# Altium footprint library Mestrado_Roger.PcbLib: 6 footprints
Each footprint in its own frame and in the unit in brackets; x right, y up, seen from the top. Pads: shape width x height; smd on the part's side, far side on the other; paste and mask are expansions set on the pad; w line width, h text height; cw(c..) or ccw(c..) is an arc to the next point about the centre after c.
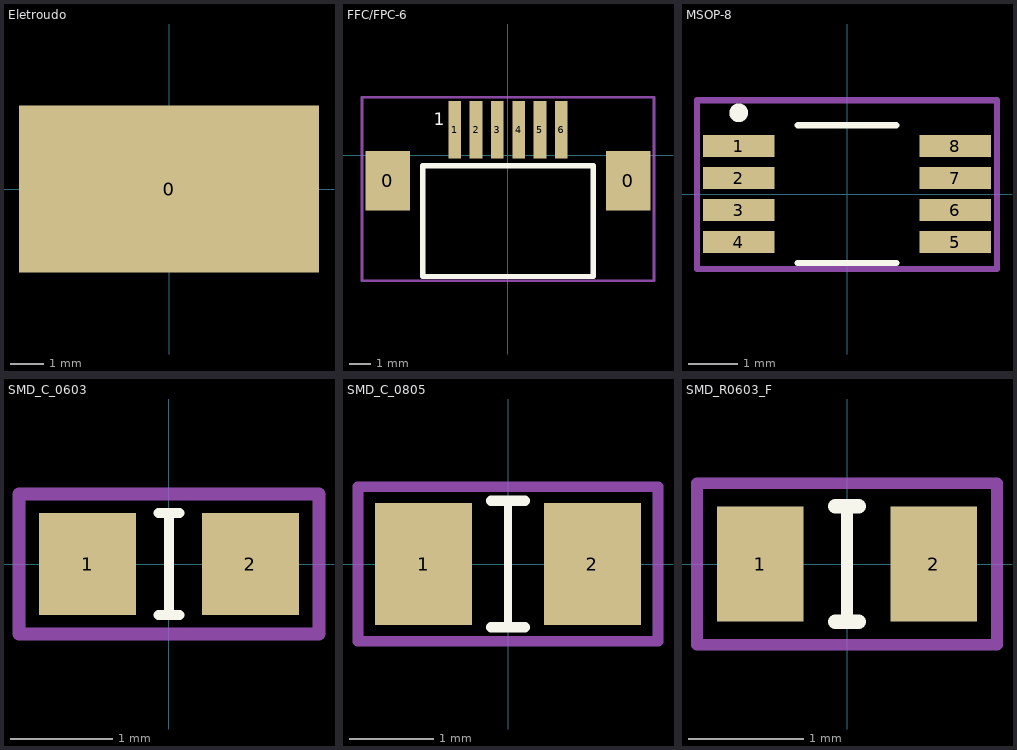
[diagram p0: the footprints below, top view; thin cyan lines are the x and y axes]

## Eletroudo [mm]
pads (1):
  rect 9x5 smd mask+0.127: 0(0,0)

## FFC/FPC-6 [mm]
pads (8):
  rect 2.1x2.8 smd: 0(-5.65,-1.2) 0(5.65,-1.2)
  rect 0.6x2.7 smd: 1(-2.5,1.2) 2(-1.5,1.2) 3(-0.5,1.2) 4(0.5,1.2) 5(1.5,1.2) 6(2.5,1.2)
Top Overlay:
  lines w0.254: -4,-5.7 -4,-0.5 4,-0.5 4,-5.7 -4,-5.7
  text "1" at -3.5,1.2 h1
Mechanical 15:
  lines w0.127: -6.858,-5.893 -6.858,2.718 6.858,2.718 6.858,-5.893 -6.858,-5.893
3D body "522070660.stp": height 2.75, standoff 0.05, extent -6.15,-5.8 6.15,1.8

## MSOP-8 [mm]
pads (8):
  rect 1.45x0.45 smd mask+0.089: 1(-2.2,0.975) 2(-2.2,0.325) 3(-2.2,-0.325) 4(-2.2,-0.975) 5(2.2,-0.975) 6(2.2,-0.325) 7(2.2,0.325) 8(2.2,0.975)
Top Overlay:
  circle w0.254: c-2.2,1.651 r0.064
  lines w0.127: -1,-1.4 1,-1.4 ; -1,1.4 1,1.4
Mechanical 15:
  lines w0.127: -3.048,-1.524 -3.048,1.905 3.048,1.905 3.048,-1.524 -3.048,-1.524
3D body "User Library-VSSOP8 3x3 e0_65-1.STEP": height 1.1, standoff 0, extent -2.5,-1.5 2.5,1.5

## SMD_C_0603 [mm]
pads (2):
  rect 0.95x1 smd: 1(-0.8,0) 2(0.8,0)
Top Overlay:
  lines w0.1: -0.1,-0.5 0.1,-0.5 ; -0.1,0.5 0.1,0.5 ; 0,-0.5 0,0.5
Mechanical 15:
  lines w0.127: -1.473,-0.686 -1.473,0.686 1.473,0.686 1.473,-0.686 -1.473,-0.686
3D body "User Library-0603(1608M) Cap.STEP": height 0.79, standoff 0, extent -1,-0.394 1,0.394

## SMD_C_0805 [mm]
pads (2):
  rect 1.15x1.45 smd: 1(-1,0) 2(1,0)
Top Overlay:
  lines w0.1: 0,-0.75 0,0.75
  lines w0.127: -0.2,-0.75 0.2,-0.75 ; -0.2,0.75 0.2,0.75
Mechanical 15:
  lines w0.127: -1.778,-0.914 1.778,-0.914 1.778,0.914 -1.778,0.914 -1.778,-0.914
3D body "User Library-0805(2012M) Cap.STEP": height 0.79, standoff 0, extent -1.254,-0.622 1.254,0.622

## SMD_R0603_F [mm]
pads (2):
  rect 0.75x1 smd: 1(-0.75,0) 2(0.75,0)
Top Overlay:
  lines w0.1: 0,-0.5 0,0 0,0.5
  lines w0.127: -0.1,-0.5 0.1,-0.5 ; -0.1,0.5 0.1,0.5
Mechanical 15:
  lines w0.1: -1.3,-0.7 -1.3,0.7 1.3,0.7 1.3,-0.7 -1.3,-0.7
3D body "User Library-RESC1608X05N.STEP": height 0.45, standoff 0, extent -0.775,-0.425 0.775,0.425